# Altium footprint library SM_ME0005V2.6_20161210.PcbLib: 25 footprints (part 1 of 2)
Each footprint in its own frame and in the unit in brackets; x right, y up, seen from the top. Pads: shape width x height; smd on the part's side, far side on the other; paste and mask are expansions set on the pad; w line width, h text height; cw(c..) or ccw(c..) is an arc to the next point about the centre after c.
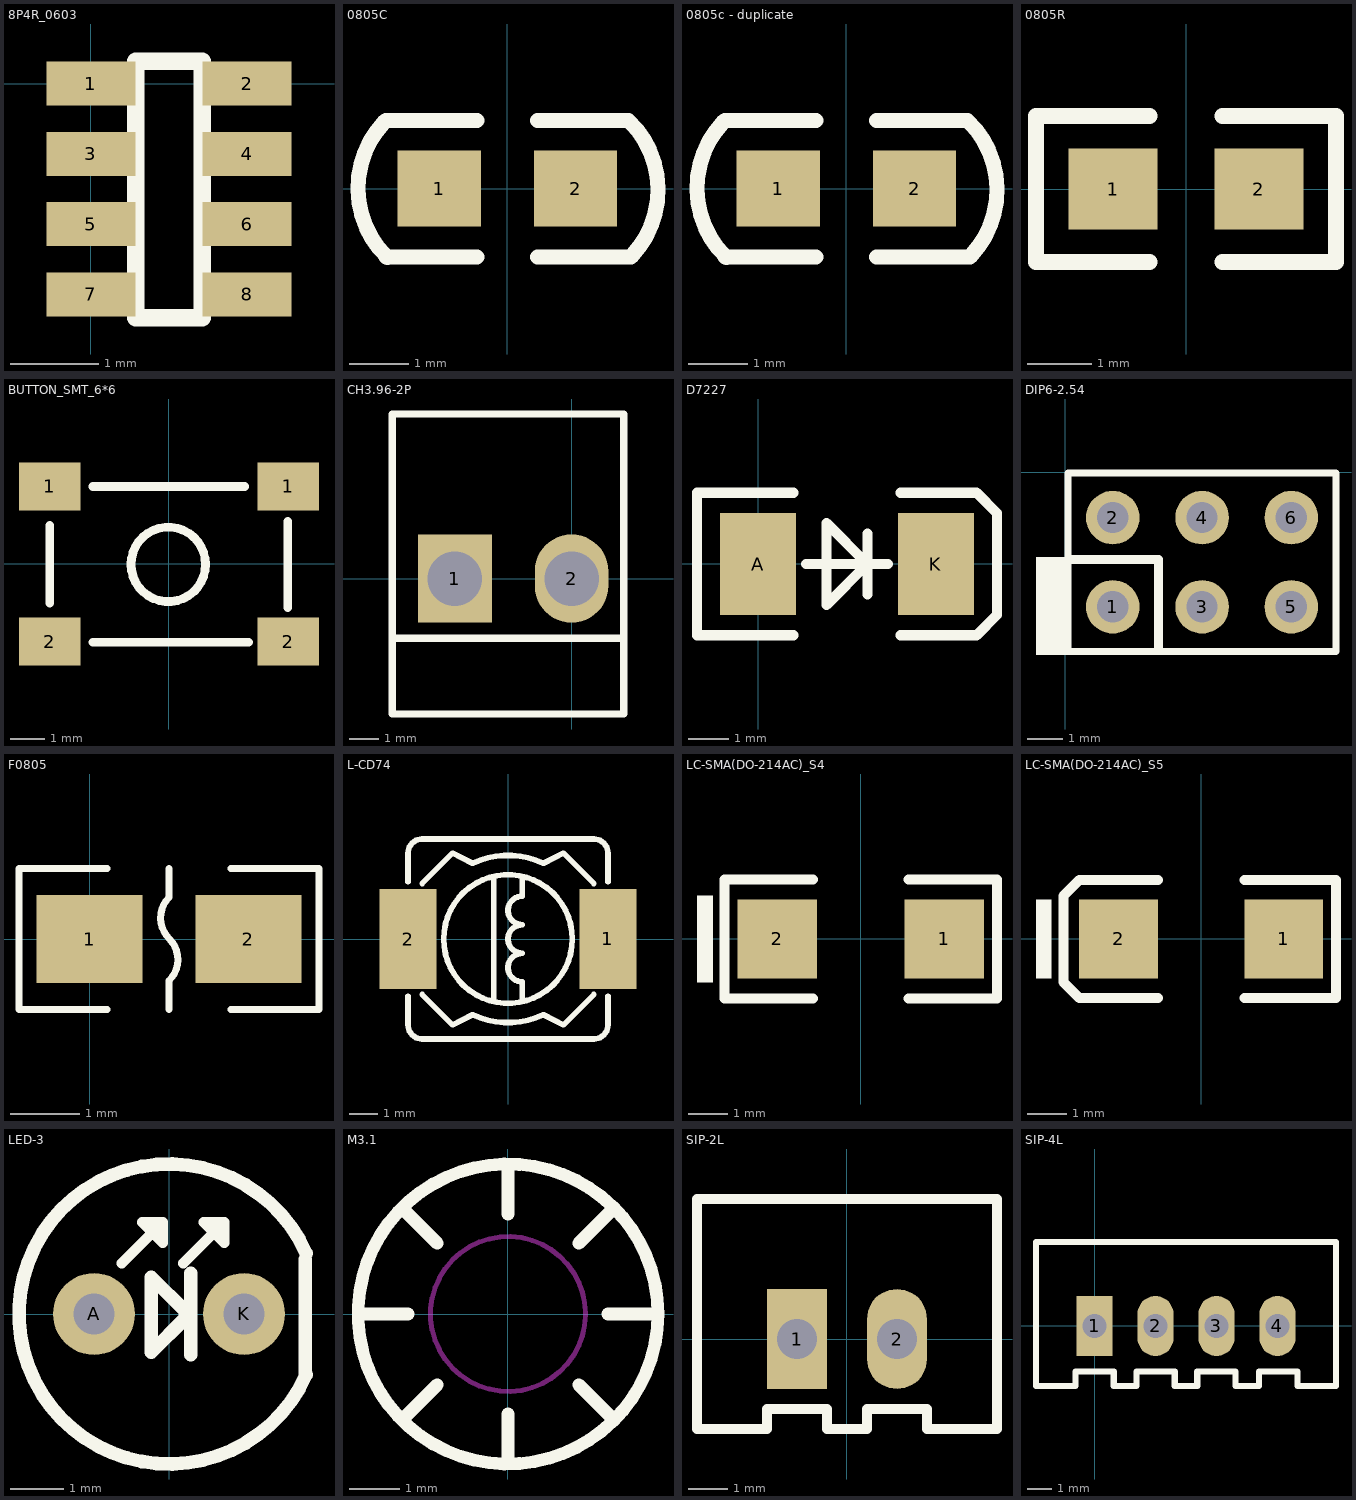
[diagram p0: the footprints below, top view; thin cyan lines are the x and y axes]

## 8P4R_0603 [mm]
height 1.2
pads (8):
  rect 1.016x0.5 smd: 1(0,0) 2(1.778,0) 3(0,-0.8) 4(1.778,-0.8) 5(0,-1.6) 6(1.778,-1.6) 7(0,-2.4) 8(1.778,-2.4)
Top Overlay:
  lines w0.2: 0.508,-2.667 0.508,0.254 1.27,0.254 1.27,-2.667 0.508,-2.667

## 0805C [mil]
pads (2):
  rect 55x50 smd: 1(-45,0) 2(45,0)
Top Overlay:
  lines w10: -80.66,44.5 ccw(c-34.88,0.29) -79.09,-45.49 ; -80,-45 -20,-45 ; -80,45 -20,45 ; 20,-45 80,-45 ; 20,45 80,45 cw(c35.79,-0.78) 81.57,-44.99
3D body: height 37.4, standoff 0, extent -40,-23.62 38.74,23.62

## 0805c - duplicate [mil]
pads (2):
  rect 55x50 smd: 1(-45,0) 2(45,0)
Top Overlay:
  lines w10: -80.66,44.5 ccw(c-34.88,0.29) -79.09,-45.49 ; -80,-45 -20,-45 ; -80,45 -20,45 ; 20,-45 80,-45 ; 20,45 80,45 cw(c35.79,-0.78) 81.57,-44.99

## 0805R [mil]
height 47.24
pads (2):
  rect 55x50 smd: 1(-45,0) 2(45,0)
Top Overlay:
  lines w10: -22.5,-45 -92.5,-45 -92.5,45 -22.5,45 ; 22.5,-45 92.5,-45 92.5,45 22.5,45

## BUTTON_SMT_6*6 [mm]
pads (4):
  rect 1.8x1.4 smd paste+0: 1(-3.5,2.275) 1(3.5,2.275) 2(-3.5,-2.275) 2(3.5,-2.275)
Top Overlay:
  circle w0.254: c-0.02,-0.011 r1.092
  lines w0.254: -3.5,-1.154 -3.5,0.084 -3.5,0.783 -3.5,1.132 ; -2.23,-2.297 2.342,-2.297 ; -2.23,2.275 2.215,2.275 ; 3.485,-1.281 3.485,1.259

## CH3.96-2P [mm]
pads (2):
  rect 2.5x3 hole 1.85: 1(-3.96,0)
  oval 2.5x3 hole 1.85: 2(0,0)
Top Overlay:
  lines w0.254: -6.096,-2.032 1.778,-2.032 ; -6.096,-4.6 -6.096,5.588 1.778,5.588 1.778,-4.6 -6.096,-4.6
3D body: height 10.9, standoff -3.7, extent -5.937,-3.912 1.923,4.588

## D7227 [mil]
pads (2):
  rect 75x100 smd: A(0,0) K(175,0)
Top Overlay:
  lines w10: 35,-70 -60,-70 -60,70 35,70 ; 47.5,0 127.5,0 ; 107.5,-30 107.5,30 ; 140,-70 215,-70 235,-50 235,50 215,70 140,70 ; 67.5,-40 67.5,40 107.5,0 67.5,-40
3D body: height 88.31, standoff -1.69, extent -22,-57 194,53

## DIP6-2.54 [mil]
pads (6):
  round 60 hole 35: 1(53,-151) 2(53,-51) 3(153,-151) 4(153,-51) 5(253,-151) 6(253,-51)
Top Overlay:
  rectangle: -33,-205 3,-95
  lines w8: 3,-201 303,-201 303,-1 3,-1 3,-201
  lines w10: 3,-98 104,-98 104,-200
3D body: height 397.64, standoff -59.06, extent 3,-200 303,0

## F0805 [mil]
pads (2):
  rect 60x50 smd: 1(0,0) 2(90,0)
Top Overlay:
  lines w3.94: 10,-40 -40,-40 -40,40 10,40 ; 45,-40 45,-23.62 ccw(c33.33,-11.67) 45.28,0 cw(c56.95,11.95) 45,23.62 45,40 ; 80,-40 130,-40 130,40 80,40
3D body: height 19.68, standoff 0, extent 3.63,-23 82.37,24.24

## L-CD74 [mm]
height 4.69
pads (2):
  rect 2x3.5 smd mask+0.1: 1(3.5,0) 2(-3.5,0)
Top Overlay:
  circle w0.2: c0,0 r2.25
  lines w0.2: -3.5,-2 -3.5,-3 ccw(c-3,-3) -3,-3.5 3,-3.5 ccw(c3,-3) 3.5,-3 3.5,-2 ; -3.5,2 -3.5,3 cw(c-3,3) -3,3.5 3,3.5 cw(c3,3) 3.5,3 3.5,2 ; -3.005,-1.945 -1.945,-3.005 -1.237,-2.652 ccw(c0,0) 1.237,-2.652 1.945,-3.005 3.005,-1.945 ; -3.005,1.945 -1.945,3.005 -1.237,2.652 cw(c0,0) 1.237,2.652 1.945,3.005 3.005,1.945 ; -0.5,-2.15 -0.5,2.15 ; 0.5,-2.15 0.5,-1.5 cw(c0.5,-1) 0.5,-0.5 cw(c0.5,0) 0.5,0.5 cw(c0.5,1) 0.5,1.5 ; 0.5,2 0.5,1.5 ; 0.5,2.15 0.5,1.5

## LC-SMA(DO-214AC)_S4 [mm]
pads (2):
  rect 2x2 smd: 1(2.1,0) 2(-2.1,0)
Top Overlay:
  rectangle: -4.125,-1.1 -3.725,1.1
  lines w0.254: -3.43,1.5 -1.2,1.5 ; -3.429,1.5 -3.429,-1.5 -1.199,-1.5 ; 1.201,-1.5 3.431,-1.5 3.431,1.5 1.201,1.5

## LC-SMA(DO-214AC)_S5 [mm]
pads (2):
  rect 2x2 smd: 1(2.1,0) 2(-2.1,0)
Top Overlay:
  rectangle: -4.2,-1 -3.8,1
  lines w0.254: -1.1,-1.5 -3.1,-1.5 -3.5,-1.1 -3.5,1.1 -3.1,1.5 -1.1,1.5 ; 1.1,-1.5 3.431,-1.5 3.431,1.5 1.1,1.5

## LED-3 [mil]
pads (2):
  round 60 hole 30: A(-55,0) K(55,0)
Top Overlay:
  lines w7.78: -34.55,37.24 -4.55,67.24 ; 10.45,37.24 40.45,67.24 ; -4.55,67.24 -4.55,52.24 -19.55,67.24 -4.55,67.24 ; 40.45,67.24 40.45,52.24 25.45,67.24 40.45,67.24
  lines w10: 16,-30 16,30 ; 100,-44.84 100,40 ; 100.52,-44.68 cw(c0,0) 100.52,44.68 ; -13,-28 -13,27 12,2 12,-3 -13,-28

## M3.1 [mil]
height 47.24
Top Overlay:
  circle w10: c0,0 r118.11
  lines w10: -115,0 -78.74,0 ; -82.5,-82.5 -55.68,-55.68 ; -82.5,82.5 -55.68,55.68 ; 0,-115 0,-78.74 ; 0,78.74 0,115 ; 55.68,-55.68 82.5,-82.5 ; 55.68,55.68 82.5,82.5 ; 78.74,0 118.11,0
Bottom Overlay:
  circle w10: c0,0 r118.11
  lines w10: -115,0 -78.74,0 ; -82.5,-82.5 -55.68,-55.68 ; -82.5,82.5 -55.68,55.68 ; 0,-115 0,-78.74 ; 0,78.74 0,115 ; 55.68,-55.68 82.5,-82.5 ; 55.68,55.68 82.5,82.5 ; 78.74,0 118.11,0
Keep-Out Layer:
  circle w3.94: c0,0 r61.02

## SIP-2L [mil]
pads (2):
  rect 60x100 hole 40: 1(-50,0)
  oval 60x100 hole 40: 2(50,0)
Top Overlay:
  lines w10: -150,-90 -80,-90 -80,-70 -20,-70 -20,-90 20,-90 20,-70 80,-70 80,-90 150,-90 150,140 -150,140 -150,-90

## SIP-4L [mm]
pads (4):
  rect 1.5x2.5 hole 1: 1(0,0)
  oval 1.5x2.5 hole 1: 2(2.54,0) 3(5.08,0) 4(7.62,0)
Top Overlay:
  lines w0.254: -0.84,-2.5 -2.44,-2.5 -2.44,3.5 10.06,3.5 10.06,-2.5 8.46,-2.5 8.46,-1.9 6.86,-1.9 6.86,-2.5 5.88,-2.5 5.88,-1.9 4.28,-1.9 4.28,-2.5 3.34,-2.5 3.34,-1.9 1.74,-1.9 1.74,-2.5 0.8,-2.5 0.8,-1.9 -0.8,-1.9 -0.8,-2.5
3D body: height 7, standoff -3.4, extent -2.466,-2.519 9.934,3.581